# EAGLE library part BME280 (library pimoroni-ics)
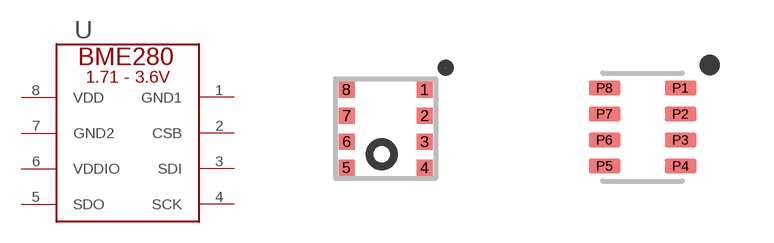
[diagram p71: symbol with the pads of BME280; footprints BME280, LGA-8]

Designator prefix U

## BME280  [BME280]
1  GND1
2  CSB
3  SDI
4  SCK
5  SDO
6  VDDIO
7  GND2
8  VDD

## BME280LONG_PADS  [LGA-8]
P1  GND1
P2  CSB
P3  SDI
P4  SCK
P5  SDO
P6  VDDIO
P7  GND2
P8  VDD

## Footprint BME280 (pad centres in mm)
smd 0.4 x 0.4: 1 0.975,0.975; 2 0.975,0.325; 3 0.975,-0.325; 4 0.975,-0.975; 5 -0.975,-0.975; 6 -0.975,-0.325; 7 -0.975,0.325; 8 -0.975,0.975

## Footprint LGA-8 (pad centres in mm)
smd 0.8 x 0.35: P1 0.95,0.975; P2 0.95,0.325; P3 0.95,-0.325; P4 0.95,-0.975; P5 -0.95,-0.975; P6 -0.95,-0.325; P7 -0.95,0.325; P8 -0.95,0.975